# Altium schematic symbol library Richtek.SchLib: 1 symbol
Pins are listed as number, name and electrical type; pins without a type are passive.

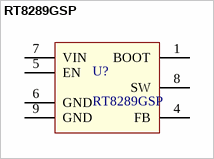
[diagram p0: symbol RT8289GSP]

## RT8289GSP
designator U?
Supplier Part Number 1: 1028-1046-1-ND
pins: 1 BOOT, 4 FB, 5 EN, 6 GND, 7 VIN, 8 SW, 9 GND